# Altium schematic symbol library TCAN337GDCN.Schlib: 1 symbol
Pins are listed as number, name and electrical type; pins without a type are passive.

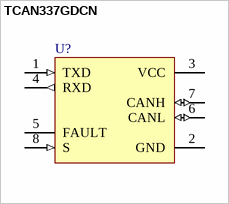
[diagram p0: symbol TCAN337GDCN]

## TCAN337GDCN
designator U?
3.3-V 5Mbps CAN Transceivers with CAN FD
pins: 1 TXD (in), 2 GND (power), 3 VCC (power), 4 RXD (out), 5 FAULT (oc), 6 CANL (io), 7 CANH (io), 8 S (in)